# Altium footprint library AMPHENOL_901-9894-RFX.PcbLib: 1 footprints
Each footprint in its own frame and in the unit in brackets; x right, y up, seen from the top. Pads: shape width x height; smd on the part's side, far side on the other; paste and mask are expansions set on the pad; w line width, h text height; cw(c..) or ccw(c..) is an arc to the next point about the centre after c.
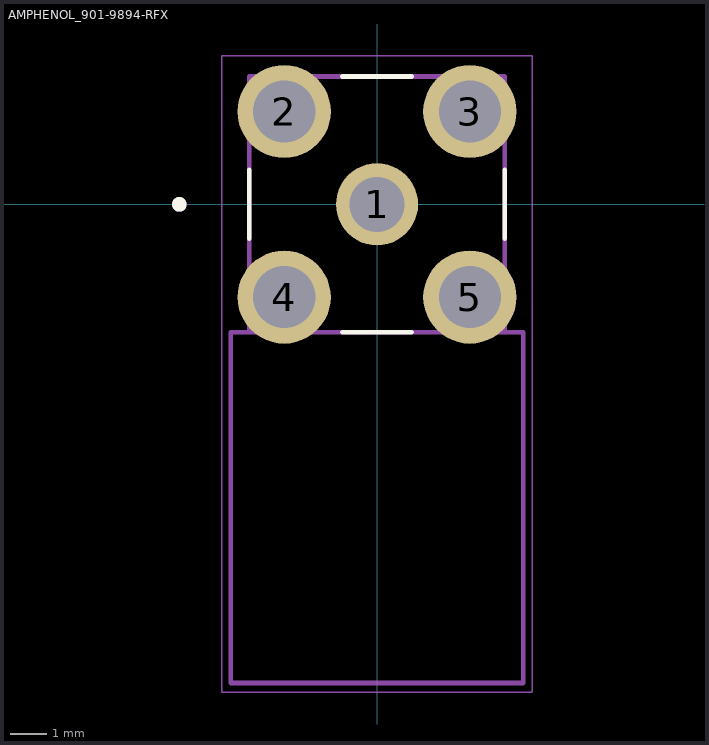
[diagram p0: the footprint, top view; thin cyan lines are the x and y axes]

## AMPHENOL_901-9894-RFX [mm]
height 10.9
pads (5):
  round 2.25 hole 1.5: 1(0,0)
  round 2.55 hole 1.7: 2(-2.54,2.54) 3(2.54,2.54) 4(-2.54,-2.54) 5(2.54,-2.54)
Top Overlay:
  circle w0.2: c-5.41,0 r0.1
  lines w0.127: -3.5,-0.945 -3.5,0.945 ; -0.945,-3.5 0.945,-3.5 ; -0.945,3.5 0.945,3.5 ; 3.5,-0.945 3.5,0.945
Mechanical 13:
  circle w0.2: c-5.41,0 r0.1
  lines w0.127: -3.5,-3.5 -4,-3.5 -4,-13.1 4,-13.1 4,-3.5 3.5,-3.5 ; -3.5,-3.5 -3.5,3.5 3.5,3.5 3.5,-3.5 ; -3.5,-3.5 3.5,-3.5
Mechanical 15:
  lines w0.05: -4.25,-13.35 4.25,-13.35 4.25,4.065 -4.25,4.065 -4.25,-13.35
3D body "step_temp.STEP": height 10.98, standoff -3.94, extent -4,-13.1 4,3.5